# EAGLE library part CON_M10 (library akita)
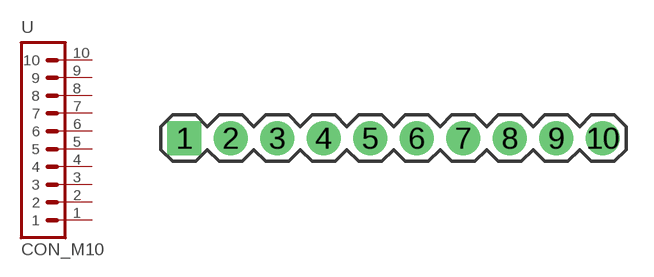
[diagram p66: symbol with the pads of 1X10; footprint 1X10]

Designator prefix -

## CON_M10  [1X10]
1  1  pas
2  2  pas
3  3  pas
4  4  pas
5  5  pas
6  6  pas
7  7  pas
8  8  pas
9  9  pas
10  10  pas

## Footprint 1X10 (pad centres in mm)
drill 1.016 pad 1.88 square: 1 -11.43,0
drill 1.016 pad 1.88: 2 -8.89,0; 3 -6.35,0; 4 -3.81,0; 5 -1.27,0; 6 1.27,0; 7 3.81,0; 8 6.35,0; 9 8.89,0; 10 11.43,0